# Altium footprint library nPOC-BB_beta_heater-board.PcbLib: 3 footprints
Each footprint in its own frame and in the unit in brackets; x right, y up, seen from the top. Pads: shape width x height; smd on the part's side, far side on the other; paste and mask are expansions set on the pad; w line width, h text height; cw(c..) or ccw(c..) is an arc to the next point about the centre after c.
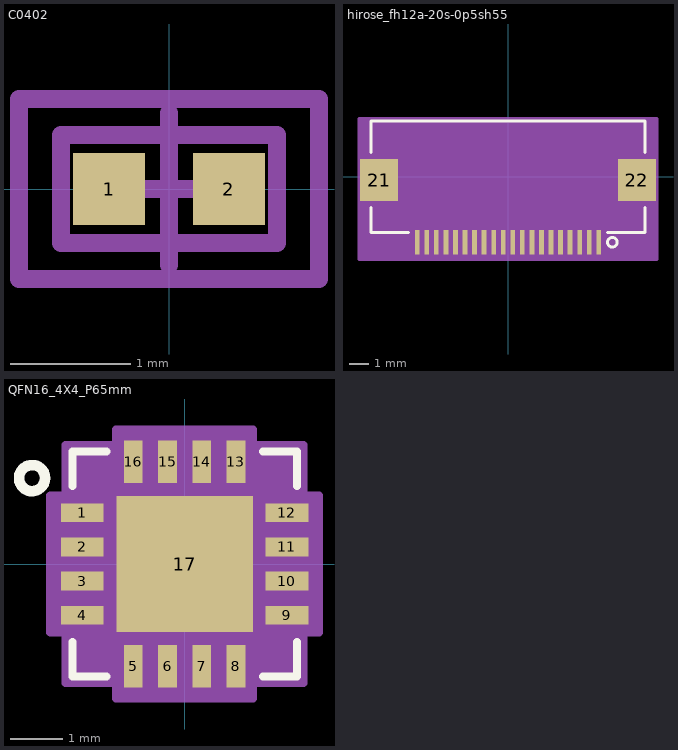
[diagram p0: the footprints below, top view; thin cyan lines are the x and y axes]

## C0402 [mm] "C0402"
height 0.56
pads (2):
  rect 0.6x0.6 smd: 1(-0.5,0) 2(0.5,0)
Top Assembly:
  lines w0.15: -0.9,-0.45 -0.9,0.45 0.9,0.45 0.9,-0.45 -0.9,-0.45
Top Component Center:
  lines w0.15: -0.635,0 0.635,0 ; 0,-0.635 0,0.635
Top Courtyard:
  lines w0.15: -1.25,-0.75 -1.25,0.75 1.25,0.75 1.25,-0.75 -1.25,-0.75
3D body "0402.STEP": height 0.35, standoff 0, extent -0.5,-0.25 0.5,0.25

## hirose_fh12a-20s-0p5sh55 [mm] "Hirose FH12A Series 0.5mm pitch top contact FPC/FFC"
height 3.6
pads (22):
  rect 0.25x1.3 smd: 1(4.75,-3.429) 2(4.25,-3.429) 3(3.75,-3.429) 4(3.25,-3.429) 5(2.75,-3.429) 6(2.25,-3.429) 7(1.75,-3.429) 8(1.25,-3.429) 9(0.75,-3.429) 10(0.25,-3.429) 11(-0.25,-3.429) 12(-0.75,-3.429) 13(-1.25,-3.429) 14(-1.75,-3.429) 15(-2.25,-3.429) 16(-2.75,-3.429) 17(-3.25,-3.429) 18(-3.75,-3.429) 19(-4.25,-3.429) 20(-4.75,-3.429)
  rect 2x2.2 smd: 21(-6.75,-0.178) 22(6.75,-0.178)
Top Overlay:
  circle w0.152: c5.461,-3.429 r0.254
  lines w0.152: -7.175,-1.615 -7.175,-2.921 -5.21,-2.921 ; -7.175,1.26 -7.175,2.921 7.175,2.921 7.175,1.26 ; 5.21,-2.921 7.175,-2.921 7.175,-1.615
Top Assembly:
  lines w0.025: 4.115,-2.794 4.75,-4.064 5.385,-2.794 ; -7.048,-2.794 7.048,-2.794 7.048,2.794 -7.048,2.794 -7.048,-2.794
Top Courtyard:
  region: -7.798,-4.331 7.798,-4.331 7.798,-3.048 7.798,3.048 -7.798,3.048 -7.798,-3.048
  lines w0.152: -7.798,-4.331 7.798,-4.331 7.798,-3.048 7.798,3.048 -7.798,3.048 -7.798,-3.048 -7.798,-4.331
3D body "FH12A-20S-0.5SH.stp": height 2.05, standoff -0.1, extent -7.25,-3.81 7.25,3.19

## QFN16_4X4_P65mm [mil] "QFN 16 pin 4x4mm 0.65 pin pitch 0.9 Height"
height 35.43
pads (17):
  rect 32x14 smd: 1(-76.5,38.39) 2(-76.5,12.8) 3(-76.5,-12.8) 4(-76.5,-38.39) 9(76.5,-38.39) 10(76.5,-12.8) 11(76.5,12.8) 12(76.5,38.39)
  rect 14x32 smd: 5(-38.39,-76.5) 6(-12.8,-76.5) 7(12.8,-76.5) 8(38.39,-76.5) 13(38.39,76.5) 14(12.8,76.5) 15(-12.8,76.5) 16(-38.39,76.5)
  rect 102x102 smd paste-50.5 mask+0: 17(0,0)
Top Overlay:
  circle w7.87: c-114.09,64.25 r9.79
  lines w6: -84,-58.49 -84,-84 -58.49,-84 ; -84,58.49 -84,84 -58.49,84 ; 58.49,-84 84,-84 84,-58.49 ; 58.49,84 84,84 84,58.49
Top Paste:
  region: 47.06,-3.94 3.94,-3.94 3.94,-47.06 47.06,-47.06
  region: 47.06,47.06 3.94,47.06 3.94,3.94 47.06,3.94
  region: -3.94,-3.94 -47.06,-3.94 -47.06,-47.06 -3.94,-47.06
  region: -3.94,47.06 -47.06,47.06 -47.06,3.94 -3.94,3.94
Top Assembly:
  circle w1: c-55,40 r14.56
  lines w1: -80.5,-45.39 -79,-45.39 -79,-31.39 -80.5,-31.39 -80.5,-45.39 ; -80.5,-19.8 -79,-19.8 -79,-5.8 -80.5,-5.8 -80.5,-19.8 ; -80.5,5.8 -79,5.8 -79,19.8 -80.5,19.8 -80.5,5.8 ; -80.5,31.39 -79,31.39 -79,45.39 -80.5,45.39 -80.5,31.39 ; -79,-79 -79,79 79,79 79,-79 -79,-79 ; -45.39,-80.5 -31.39,-80.5 -31.39,-79 -45.39,-79 -45.39,-80.5 ; -45.39,79 -31.39,79 -31.39,80.5 -45.39,80.5 -45.39,79 ; -19.8,-80.5 -5.8,-80.5 -5.8,-79 -19.8,-79 -19.8,-80.5 ; -19.8,79 -5.8,79 -5.8,80.5 -19.8,80.5 -19.8,79 ; 5.8,-80.5 19.8,-80.5 19.8,-79 5.8,-79 5.8,-80.5 ; 5.8,79 5.8,80.5 19.8,80.5 19.8,79 5.8,79 ; 31.39,-80.5 45.39,-80.5 45.39,-79 31.39,-79 31.39,-80.5 ; 31.39,79 31.39,80.5 45.39,80.5 45.39,79 31.39,79 ; 79,-45.39 80.5,-45.39 80.5,-31.39 79,-31.39 79,-45.39 ; 79,-19.8 80.5,-19.8 80.5,-5.8 79,-5.8 79,-19.8 ; 79,5.8 79,19.8 80.5,19.8 80.5,5.8 79,5.8 ; 79,31.39 79,45.39 80.5,45.39 80.5,31.39 79,31.39
Top Courtyard:
  region: -51.18,-89 -89,-89 -89,-51.18 -100.5,-51.18 -100.5,51.18 -89,51.18 -89,89 -51.18,89 -51.18,100.5 51.18,100.5 51.18,89 89,89 89,51.18 100.5,51.18 100.5,-51.18 89,-51.18 89,-89 51.18,-89 51.18,-100.5 -51.18,-100.5
  lines w6: -100.5,-51.18 -89,-51.18 -89,-89 -51.18,-89 -51.18,-100.5 51.18,-100.5 51.18,-89 89,-89 89,-51.18 100.5,-51.18 100.5,51.18 89,51.18 89,89 51.18,89 51.18,100.5 -51.18,100.5 -51.18,89 -89,89 -89,51.18 -100.5,51.18 -100.5,-51.18
3D body: height 35.43, standoff 0, extent -80,-80 80,80